# EAGLE library part TDA1516BQ (library linear2)
radio power amplifier 24 W BTL or 2 x 12 watt stereo car Source: TDA1516BQ_1.pdf
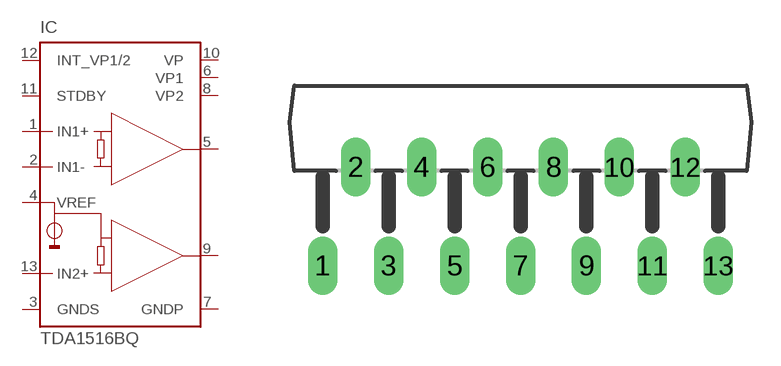
[diagram p202: symbol with the pads of MULTIWAT-SIL13; footprint MULTIWAT-SIL13]

Designator prefix IC

## TDA1516BQ  [MULTIWAT-SIL13]
1  IN1+  in
2  IN1-  in
3  GNDS  pwr
4  VREF  pas
5  OUT1  out
6  VP1  pwr
7  GNDP  pwr
8  VP2  pwr
9  OUT2  out
10  VP  in
11  STDBY  in
12  INT_VP1/2  pas
13  IN2+  in

## Footprint MULTIWAT-SIL13 (pad centres in mm)
DBS13P plastic DIL-bent-SIL power package 13 leads (lead length 12 mm) SOT141-6 Source: TDA1516BQ_1.pdf
drill 1 pad 1.5 long: 1 -10.2,-5.08; 2 -8.5,0; 3 -6.8,-5.08; 4 -5.1,0; 5 -3.4,-5.08; 6 -1.7,0; 7 0,-5.08; 8 1.7,0; 9 3.4,-5.08; 10 5.1,0; 11 6.8,-5.08; 12 8.5,0; 13 10.2,-5.08